# EAGLE library part USB-B-S-RA (library USB-B-S-RA)
Connector USB Type B Receptacle .Single Right Angle Thru Hole Source: Datasheet <https://datasheet.datasheetarchive.com/originals/distributors/Datasheets_SAMA/2da73933fd867bb01aba3cef730a29a2.pdf>
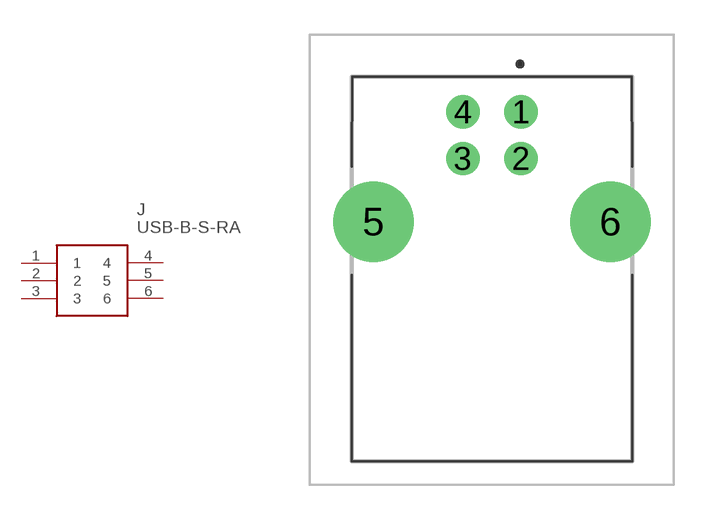
[diagram p0: symbol with the pads of USBBSRA; footprint USBBSRA]

Designator prefix J

## USB-B-S-RA (Description: Connector USB Type B Receptacle .Single Right Angle Thru Hole; Height: 10mm; Manufacturer_Name: Adam Tech; Manufacturer_Part_Number: USB-B-S-RA)  [USBBSRA]
1  1
2  2
3  3
4  4
5  5
6  6

## Footprint USBBSRA (pad centres in mm)
USB-B-S-RA
drill 0.92 pad 1.431: 1 1.25,6.34; 2 1.25,4.34; 3 -1.25,4.34; 4 -1.25,6.34
drill 2.3 pad 3.45: 5 -5.08,1.63; 6 5.08,1.63